# Altium schematic symbol library 1.5X2.25RFSHIELD.SchLib: 1 symbol
Pins are listed as number, name and electrical type; pins without a type are passive.

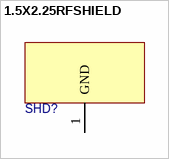
[diagram p0: symbol 1.5X2.25RFSHIELD]

## 1.5X2.25RFSHIELD
designator SHD?
pins: 1 GND